# Altium schematic symbol library Internal Customized.SchLib: 1 symbol
Pins are listed as number, name and electrical type; pins without a type are passive.

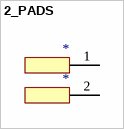
[diagram p0: symbol 2_PADS]

## 2_PADS
designator *
footprint 2_PADS
pins: 1, 2